# EAGLE library part V__VFD_FIP12GM11 (library ++Bedrahtet)
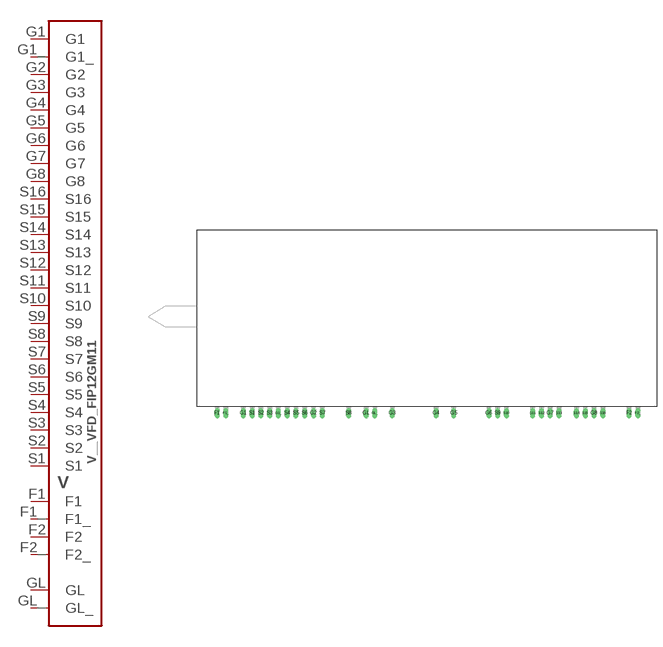
[diagram p31: symbol with the pads of VFD_FIP12GM11; footprint VFD_FIP12GM11]

Designator prefix V

## V__VFD_FIP12GM11  [VFD_FIP12GM11]
F1  F1
F1_  F1_
F2  F2
F2_  F2_
G1  G1
G1_  G1_
G2  G2
G3  G3
G4  G4
G5  G5
G6  G6
G7  G7
G8  G8
GL  GL
GL_  GL_
S1  S1
S2  S2
S3  S3
S4  S4
S5  S5
S6  S6
S7  S7
S8  S8
S9  S9
S10  S10
S11  S11
S12  S12
S13  S13
S14  S14
S15  S15
S16  S16

## Footprint VFD_FIP12GM11 (pad centres in mm)
drill 1 long: F1 0,0; F1_ 2.54,0; F2 119.38,0; F2_ 121.92,0; G1 7.62,0; G1_ 17.78,0; G2 27.94,0; G3 50.8,0; G4 63.5,0; G5 68.58,0; G6 78.74,0; G7 96.52,0; G8 109.22,0; GL 43.18,0; GL_ 45.72,0; S1 10.16,0; S2 12.7,0; S3 15.24,0; S4 20.32,0; S5 22.86,0; S6 25.4,0; S7 30.48,0; S8 38.1,0; S9 81.28,0; S10 83.82,0; S11 91.44,0; S12 93.98,0; S13 99.06,0; S14 104.14,0; S15 106.68,0; S16 111.76,0